# Altium footprint library 2015-03-26_02-24-56.PcbLib: 4 footprints
Each footprint in its own frame and in the unit in brackets; x right, y up, seen from the top. Pads: shape width x height; smd on the part's side, far side on the other; paste and mask are expansions set on the pad; w line width, h text height; cw(c..) or ccw(c..) is an arc to the next point about the centre after c.
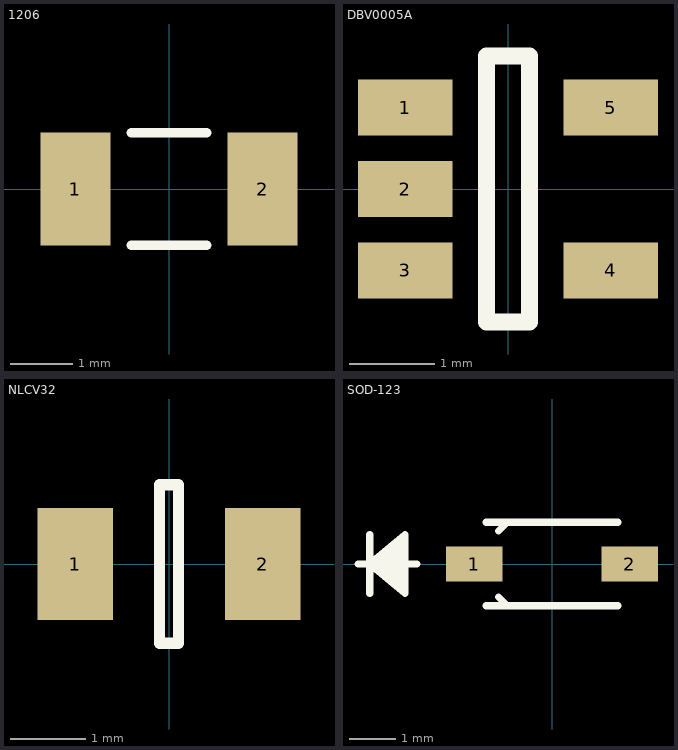
[diagram p0: the footprints below, top view; thin cyan lines are the x and y axes]

## 1206 [mil]
pads (2):
  rect 44x71 smd: 1(-59,0) 2(59,0)
Top Overlay:
  lines w6: -23.9,-35.5 23.9,-35.5 ; -23.9,35.5 23.9,35.5

## DBV0005A [mm]
pads (5):
  rect 1.1x0.65 smd paste-0.102 mask+0.051: 1(-1.2,0.95) 2(-1.2,0) 3(-1.2,-0.95) 4(1.2,-0.95) 5(1.2,0.95)
Top Overlay:
  lines w0.2: -0.25,-1.55 -0.25,1.55 0.25,1.55 0.25,-1.55 -0.25,-1.55

## NLCV32 [mil]
pads (2):
  rect 39.5x59 smd: 1(-49.25,0) 2(49.25,0)
Top Overlay:
  lines w6: -5,-41.5 5,-41.5 5,41.5 -5,41.5 -5,-41.5

## SOD-123 [mil]
pads (2):
  rect 48x30 smd: 1(-66,0) 2(66,0)
Top Overlay:
  lines w6: -165,0 -115,0 ; -155,-25 -155,25 ; -125,-20 -155,0 ; -125,-15 -155,0 ; -125,-10 -155,0 ; -125,-5 -155,0 ; -125,5 -155,0 ; -125,10 -155,0 ; -125,15 -155,0 ; -125,20 -155,0 ; -56,-35.5 56,-35.5 ; -56,35.5 56,35.5 ; -45.65,-28.1 -38.25,-35.5 ; -45.65,28.1 -38.25,35.5 ; -155,0 -125,25 -125,-25 -155,0